# EAGLE library part HEADER-14 (library everykey)
14 pin headers
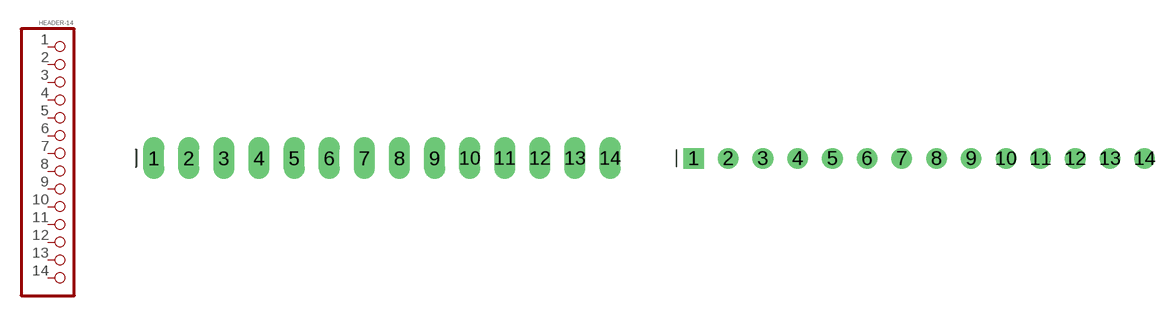
[diagram p34: symbol with the pads of 1X14_OVAL; footprints 1X14_OVAL, 1X14_ROUND]

Designator prefix P

## HEADER-14OVAL  [1X14_OVAL]
1  1  pas
2  2  pas
3  3  pas
4  4  pas
5  5  pas
6  6  pas
7  7  pas
8  8  pas
9  9  pas
10  10  pas
11  11  pas
12  12  pas
13  13  pas
14  14  pas

## HEADER-14ROUND  [1X14_ROUND]
Pads as for 1X14_OVAL

## HEADER-14-2X07_ROUND  [2X07_ROUND]
Pads as for 1X14_OVAL

## HEADER-14-2X07_LOCKING  [2X07_LOCKING]
Pads as for 1X14_OVAL

## Footprint 1X14_OVAL (pad centres in mm)
drill 1 long: 1 -16.51,0; 2 -13.97,0; 3 -11.43,0; 4 -8.89,0; 5 -6.35,0; 6 -3.81,0; 7 -1.27,0; 8 1.27,0; 9 3.81,0; 10 6.35,0; 11 8.89,0; 12 11.43,0; 13 13.97,0; 14 16.51,0

## Footprint 1X14_ROUND (pad centres in mm)
drill 1 square: 1 -16.51,0
drill 1: 2 -13.97,0; 3 -11.43,0; 4 -8.89,0; 5 -6.35,0; 6 -3.81,0; 7 -1.27,0; 8 1.27,0; 9 3.81,0; 10 6.35,0; 11 8.89,0; 12 11.43,0; 13 13.97,0; 14 16.51,0

## Footprint 2X07_ROUND (pad centres in mm)
pin header, 2.54mm row and column pitch, 2 rows with 7 pins each
drill 1 square: 1 -7.62,-1.27
drill 1: 2 -7.62,1.27; 3 -5.08,-1.27; 4 -5.08,1.27; 5 -2.54,-1.27; 6 -2.54,1.27; 7 0,-1.27; 8 0,1.27; 9 2.54,-1.27; 10 2.54,1.27; 11 5.08,-1.27; 12 5.08,1.27; 13 7.62,-1.27; 14 7.62,1.27

## Footprint 2X07_LOCKING (pad centres in mm)
2x7 header, 2.54mm pitch, outline for latching connector
drill 1 square: 1 -7.62,-1.27
drill 1: 2 -7.62,1.27; 3 -5.08,-1.27; 4 -5.08,1.27; 5 -2.54,-1.27; 6 -2.54,1.27; 7 0,-1.27; 8 0,1.27; 9 2.54,-1.27; 10 2.54,1.27; 11 5.08,-1.27; 12 5.08,1.27; 13 7.62,-1.27; 14 7.62,1.27